# Altium footprint library Resistance.PcbLib: 2 footprints
Each footprint in its own frame and in the unit in brackets; x right, y up, seen from the top. Pads: shape width x height; smd on the part's side, far side on the other; paste and mask are expansions set on the pad; w line width, h text height; cw(c..) or ccw(c..) is an arc to the next point about the centre after c.
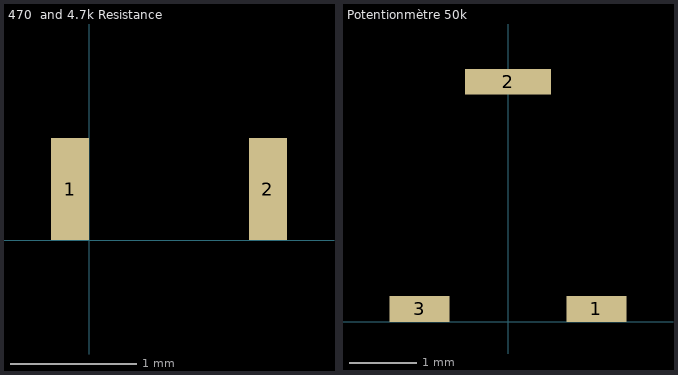
[diagram p0: the footprints below, top view; thin cyan lines are the x and y axes]

## 470  and 4.7k Resistance [mil]
pads (2):
  rect 12x32 smd: 1(-6,16) 2(56,16)

## Potentionmètre 50k [mil]
pads (3):
  rect 35x15 smd: 1(51.5,7.5) 3(-51.5,7.5)
  rect 50x15 smd: 2(0,140)